# Altium footprint library PTS636SM50JSMTRLFS.PcbLib: 1 footprints
Each footprint in its own frame and in the unit in brackets; x right, y up, seen from the top. Pads: shape width x height; smd on the part's side, far side on the other; paste and mask are expansions set on the pad; w line width, h text height; cw(c..) or ccw(c..) is an arc to the next point about the centre after c.
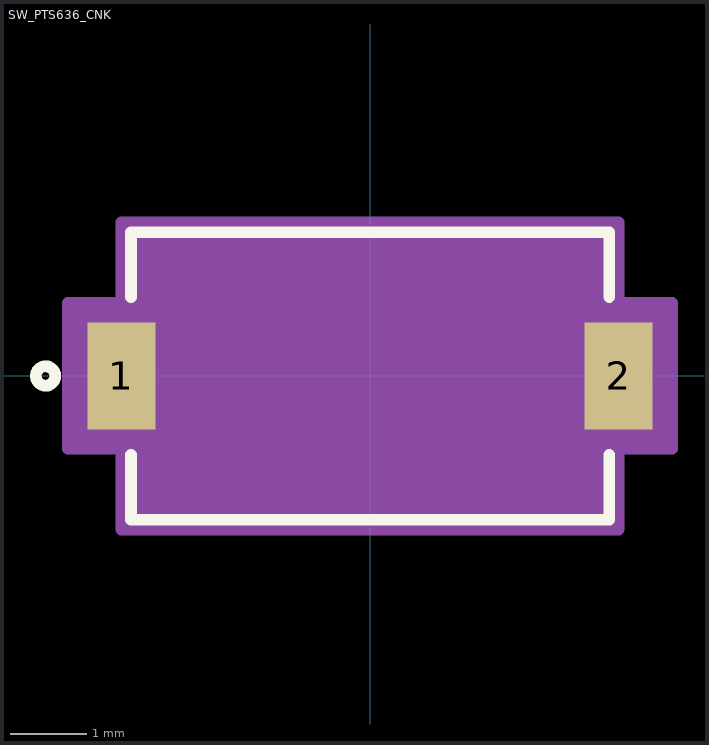
[diagram p0: the footprint, top view; thin cyan lines are the x and y axes]

## SW_PTS636_CNK [mil]
pads (2):
  rect 35x55 smd paste+0 mask+0: 1(-127.95,0) 2(127.95,0)
Top Overlay:
  circle w6: c-166.95,0 r5
  lines w6: -123,-40.6 -123,-74 123,-74 123,-40.6 ; -123,40.6 -123,74 123,74 123,40.6
Mechanical 13:
  circle w0: c-110.45,0 r3
  lines w0: -12,69 ccw(c0,69) 12,69
  lines w1: -118,-69 -118,69 118,69 118,-69 -118,-69
Mechanical 15:
  region: -128,-37.5 -155.45,-37.5 -155.45,37.5 -128,37.5 -128,79 128,79 128,37.5 155.45,37.5 155.45,-37.5 128,-37.5 128,-79 -128,-79
  lines w6: -155.45,-37.5 -128,-37.5 -128,-79 128,-79 128,-37.5 155.45,-37.5 155.45,37.5 128,37.5 128,79 -128,79 -128,37.5 -155.45,37.5 -155.45,-37.5
3D body "SW_PTS636_CNK.step": height 169.09, standoff 0, extent -117.99,-69.02 117.99,69.02